# EAGLE library part CN_6P (library lieBtrau)
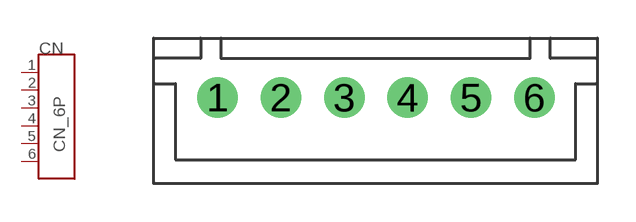
[diagram p3: symbol with the pads of CN_HDR_1X6_180D_P25_JST_B6B-XH; footprint CN_HDR_1X6_180D_P25_JST_B6B-XH]

Designator prefix CN

## CN_6P_JST_B6B-XH_JST_B6B-XH (COST: 0.24; ORDERCODE: 455-2271-ND; VALUE: JST XH)  [CN_HDR_1X6_180D_P25_JST_B6B-XH]
1  1
2  2
3  3
4  4
5  5
6  6

## Footprint CN_HDR_1X6_180D_P25_JST_B6B-XH (pad centres in mm)
drill 0.9 pad 1.6: 1 -5,0; 2 -2.5,0; 3 0,0; 4 2.5,0; 5 5,0; 6 7.5,0